# Altium footprint library SPETCER_5.PcbLib: 23 footprints (part 2 of 2)
Each footprint in its own frame and in the unit in brackets; x right, y up, seen from the top. Pads: shape width x height; smd on the part's side, far side on the other; paste and mask are expansions set on the pad; w line width, h text height; cw(c..) or ccw(c..) is an arc to the next point about the centre after c.
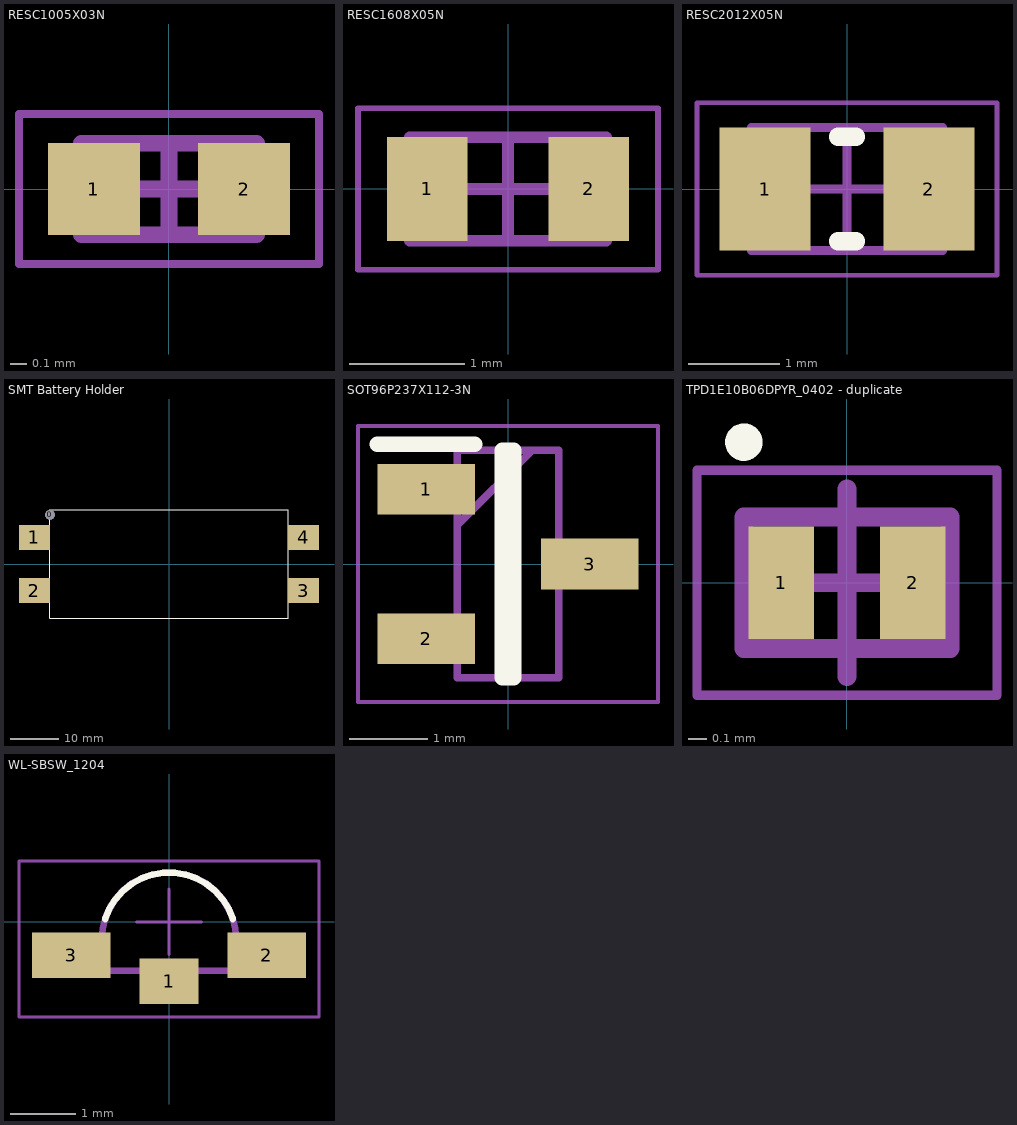
[diagram p1: the footprints below, top view; thin cyan lines are the x and y axes]

## RESC1005X03N [mm] "Chip Resistor, 2-Leads, Body 1,00x0,50mm, IPC Medium Density, 0402"
height 0.35
pads (2):
  rect 0.55x0.55 smd: 1(-0.45,0) 2(0.45,0)
Mechanical 13:
  lines w0.1: -0.525,-0.275 0.525,-0.275 0.525,0.275 -0.525,0.275 -0.525,-0.275
Mechanical 15:
  lines w0.05: -0.9,-0.45 0.9,-0.45 0.9,0.45 -0.9,0.45 -0.9,-0.45
  lines w0.1: -0.275,0 0.275,0 ; 0,-0.275 0,0.275
3D body "RESC1005X03N.step": height 0.35, standoff 0, extent -0.525,-0.275 0.525,0.275

## RESC1608X05N [mm] "Chip Resistor, 2-Leads, Body 1,60x0,80mm, IPC Medium Density, 0603"
height 0.45
pads (2):
  rect 0.7x0.9 smd: 1(-0.7,0) 2(0.7,0)
Mechanical 13:
  lines w0.1: -0.85,-0.45 -0.85,0.45 0.85,0.45 0.85,-0.45 -0.85,-0.45
Mechanical 15:
  lines w0.05: -1.3,-0.7 -1.3,0.7 1.3,0.7 1.3,-0.7 -1.3,-0.7
  lines w0.1: -0.45,0 0.45,0 ; 0,-0.45 0,0.45
3D body "RESC1608X05N.step": height 0.45, standoff 0, extent -0.85,-0.45 0.85,0.45

## RESC2012X05N [mm] "Chip Resistor, 2-Leads, Body 2,00x1,25mm, IPC Medium Density, 0805"
height 0.5
pads (2):
  rect 1x1.35 smd: 1(-0.9,0) 2(0.9,0)
Top Overlay:
  lines w0.2: -0.1,-0.575 0.1,-0.575 ; -0.1,0.575 0.1,0.575
Mechanical 13:
  lines w0.1: -1.05,-0.675 -1.05,0.675 1.05,0.675 1.05,-0.675 -1.05,-0.675
Mechanical 15:
  lines w0.05: -1.65,-0.95 -1.65,0.95 1.65,0.95 1.65,-0.95 -1.65,-0.95
  lines w0.1: -0.5,0 0.5,0 ; 0,-0.5 0,0.5
3D body "RESC2012X05N.step": height 0.5, standoff 0, extent -1.05,-0.675 1.05,0.675

## SMT Battery Holder [mm] "SMT Battery Holder, Zylindrisch, 2 Cells AAA"
height 11.18
pads (5):
  round 1.98 hole 1.98 unplated: 0(-24.395,10.075)
  rect 6.35x5.08 smd: 1(-27.57,5.455) 2(-27.57,-5.455) 3(27.57,-5.455) 4(27.57,5.455)
Top Overlay:
  lines w0.254: -24.395,-11.115 -24.395,11.115 24.395,11.115 24.395,-11.115 -24.395,-11.115

## SOT96P237X112-3N [mm]
pads (3):
  rect 1.25x0.65 smd: 1(-1.05,0.96) 2(-1.05,-0.96) 3(1.05,0)
Top Overlay:
  lines w0.2: -1.675,1.535 -0.425,1.535 ; -0.075,-1.46 0.075,-1.46 0.075,1.46 -0.075,1.46 -0.075,-1.46
Mechanical 13:
  lines w0.1: -0.65,0.5 0.31,1.46 ; -0.65,-1.46 0.65,-1.46 0.65,1.46 -0.65,1.46 -0.65,-1.46
Mechanical 15:
  lines w0.05: -1.925,-1.77 1.925,-1.77 1.925,1.77 -1.925,1.77 -1.925,-1.77
3D body "MCP111T-315E_TT.stp": height 1.12, standoff 0, extent -1.185,-1.46 1.185,1.46

## TPD1E10B06DPYR_0402 - duplicate [mm] "ESD-Entstörer/TVS-Dioden, DFN, 2-Leads, 0402, Body 0.60x1.00mm, Pitch 0.70mm, IPC Medium Density"
height 0.45
pads (2):
  rect 0.35x0.6 smd: 1(-0.35,0) 2(0.35,0)
Top Overlay:
  circle w0.1: c-0.55,0.75 r0.05
Mechanical 13:
  lines w0.1: -0.55,-0.35 -0.55,0.35 0.55,0.35 0.55,-0.35 -0.55,-0.35
Mechanical 15:
  lines w0.05: -0.8,-0.6 -0.8,0.6 0.8,0.6 0.8,-0.6 -0.8,-0.6
  lines w0.1: -0.5,0 0.5,0 ; 0,-0.5 0,0.5
3D body "TPD1E10B06DPYR_0402.step": height 0.45, standoff 0, extent -0.55,-0.35 0.55,0.35

## WL-SBSW_1204 [mm] "SMD Bi-color Side view Waterclear, body 3.2x1mm"
height 1
pads (3):
  rect 0.9x0.7 smd: 1(0,-0.91)
  rect 1.2x0.7 smd: 2(1.5,-0.51) 3(-1.5,-0.51)
Top Overlay:
  lines w0.1: -0.979,0.043 cw(c0,-0.27) 0.979,0.043
Mechanical 13:
  lines w0.1: -1.6,-0.75 1.6,-0.75 1.6,-0.27 1.028,-0.27 ccw(c0,-0.27) -1.028,-0.27 -1.6,-0.27 -1.6,-0.75
Mechanical 15:
  lines w0.05: -0.5,0 0.5,0 ; 0,-0.5 0,0.5 ; -2.3,-1.46 2.3,-1.46 2.3,0.935 -2.3,0.935 -2.3,-1.46
3D body "155124xx73200.stp": height 1.02, standoff 0.02, extent -1.6,-0.765 1.6,0.735